# EAGLE library part B6PS-VH (library jst-vh)
Wire-to-Board 3.96mm pitch top mount connector Source: http://www.jst-mfg.com/product/pdf/jpn/VH.pdf http://www.jst-mfg.com/product/detail.php?series=262
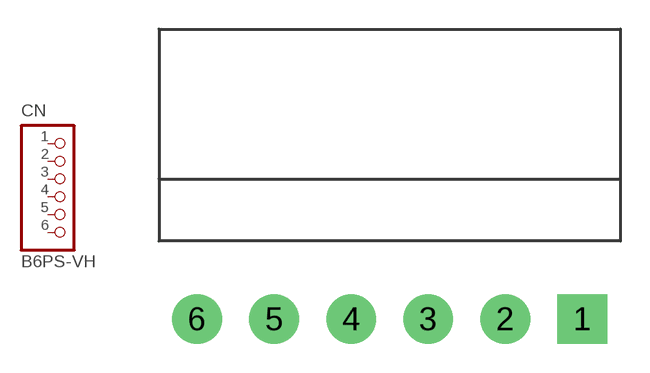
[diagram p5: symbol with the pads of B6PS-VH; footprint B6PS-VH]

Designator prefix CN

## B6PS-VH  [B6PS-VH]
1  1  pas
2  2  pas
3  3  pas
4  4  pas
5  5  pas
6  6  pas

## Footprint B6PS-VH (pad centres in mm)
drill 1.7 square: 1 9.9,0
drill 1.7: 2 5.94,0; 3 1.98,0; 4 -1.98,0; 5 -5.94,0; 6 -9.9,0